# Altium integrated library ON Semi ESD Protection Diodes & Arrays.IntLib: 286 symbols (part 8 of 8)
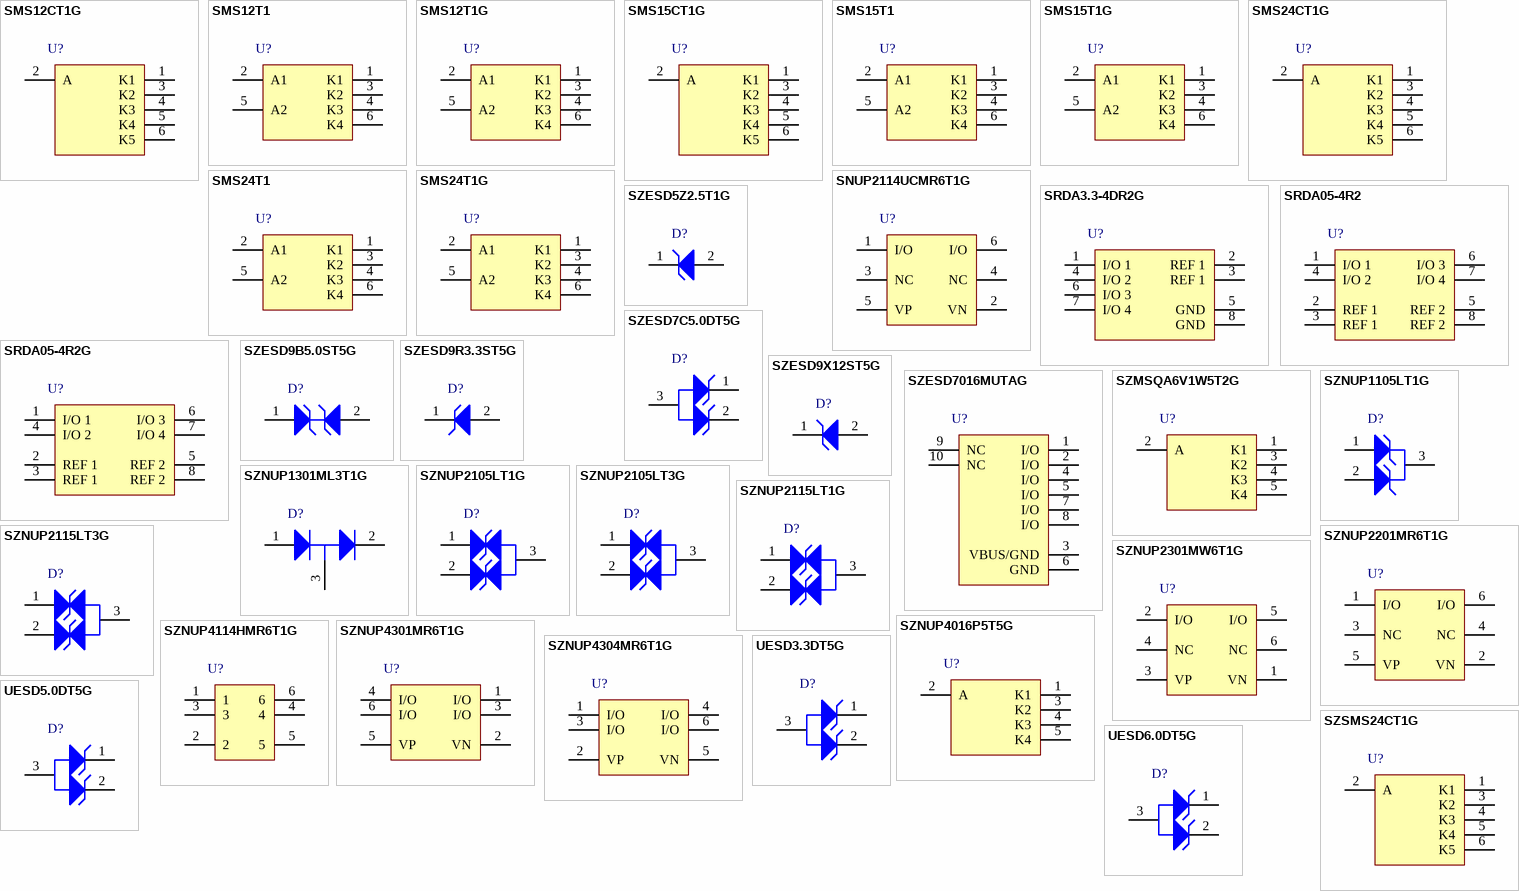
[diagram p14: symbols SMS12CT1G to UESD6.0DT5G]

## SMS15T1
designator U?
Quad Transient Voltage Suppressor, for ESD Protection, 6-Pin SC-74, Tape and Reel; Manufacturer: On Semiconductor; PartNumber: SMS15T1; C Max (pF): 125; Direction: Unidirectional; IR Max (uA): 1; Number of Lines: 4; PPK Max (W): 350; V(BR) Min (V): 16.7; DatasheetVersion: Rev. 7; PackageVersion: Rev. N, 06/2012; PackageReference: SC-74-6-318F-05; PackageDescription: 6-Pin Small Outline Transistor, Body 3 x 1.5 mm, Pitch 0.95 mm; Supplier 1: Digi-Key; Supplier Part Number 1: SMS15T1OS-ND; Supplier 2: Mouser; Supplier Part Number 2: 863-SMS15T1; Packing: Tape and Reel; Mounting Technology: Surface Mount; ComponentLink1Description: Manufacturer URL; ComponentLink1URL: http://www.onsemi.com/; ComponentLink2Description: Datasheet; ComponentLink2URL: http://www.onsemi.cn/pub_link/Collateral/SMS05T1-D.PDF; ComponentLink3Description: Package Specification; ComponentLink3URL: http://www.onsemi.com/pub_link/Collateral/318F-05.PDF
footprint ONSC-SC-74-6-318F-05_V (SOT23, 6-Leads, Body 3x1.5mm, Pitch 0.95mm)
pins: 1 K1, 2 A1, 3 K2, 4 K3, 5 A2, 6 K4

## SMS15T1G
designator U?
Quad Transient Voltage Suppressor, for ESD Protection, 6-Pin SC-74, Pb-Free, Tape and Reel; Manufacturer: On Semiconductor; PartNumber: SMS15T1G; C Max (pF): 125; Direction: Unidirectional; IR Max (uA): 1; Number of Lines: 4; PPK Max (W): 350; V(BR) Min (V): 16.7; DatasheetVersion: Rev. 7; PackageVersion: Rev. N, 06/2012; PackageReference: SC-74-6-318F-05; PackageDescription: 6-Pin Small Outline Transistor, Body 3 x 1.5 mm, Pitch 0.95 mm; Supplier 1: Digi-Key; Supplier Part Number 1: SMS15T1GOSTR-ND; Supplier 2: Digi-Key; Supplier Part Number 2: SMS15T1GOSCT-ND; Supplier 3: Digi-Key; Supplier Part Number 3: SMS15T1GOSDKR-ND; Supplier 4: Farnell; Supplier Part Number 4: 2317490; Supplier 5: Mouser; Supplier Part Number 5: 863-SMS15T1G; Packing: Tape and Reel; RoHS: Pb-Free; Mounting Technology: Surface Mount; ComponentLink1Description: Manufacturer URL; ComponentLink1URL: http://www.onsemi.com/; ComponentLink2Description: Datasheet; ComponentLink2URL: http://www.onsemi.cn/pub_link/Collateral/SMS05T1-D.PDF; ComponentLink3Description: Package Specification; ComponentLink3URL: http://www.onsemi.com/pub_link/Collateral/318F-05.PDF
footprint ONSC-SC-74-6-318F-05_V (SOT23, 6-Leads, Body 3x1.5mm, Pitch 0.95mm)
pins: 1 K1, 2 A1, 3 K2, 4 K3, 5 A2, 6 K4

## SMS24CT1G
designator U?
5-Line Transient Voltage Suppressor Array, 6-Pin TSOP, Pb-Free, Tape and Reel; Manufacturer: On Semiconductor; PartNumber: SMS24CT1G; C Max (pF): 75; Direction: Unidirectional; IR Max (uA): 1; Number of Lines: 5; PPK Max (W): 350; V(BR) Min (V): 26.7; VRWM Max (V): 24; DatasheetVersion: Rev. 7; PackageVersion: Rev. V, 06/2012; PackageReference: TSOP-6-318G-02; PackageDescription: 6-Pin Small Outline Package, Body 3 x 1.5 mm, Pitch 0.95 mm; Supplier 1: Digi-Key; Supplier Part Number 1: SMS24CT1GOSTR-ND; Supplier 2: Digi-Key; Supplier Part Number 2: SMS24CT1GOSCT-ND; Supplier 3: Mouser; Supplier Part Number 3: 863-SMS24CT1G; Packing: Tape and Reel; RoHS: Pb-Free; Mounting Technology: Surface Mount; ComponentLink1Description: Manufacturer URL; ComponentLink1URL: http://www.onsemi.com/; ComponentLink2Description: Datasheet; ComponentLink2URL: http://www.onsemi.cn/pub_link/Collateral/SMS05C-D.PDF; ComponentLink3Description: Package Specification; ComponentLink3URL: http://www.onsemi.com/pub_link/Collateral/318G-02.PDF
footprint ONSC-TSOP-6-318G-02_V (SOP, 6-Leads, Body 3x1.5mm, Pitch 0.95mm)
pins: 1 K1, 2 A, 3 K2, 4 K3, 5 K4, 6 K5

## SMS24T1
designator U?
Quad Transient Voltage Suppressor, for ESD Protection, 6-Pin SC-74, Tape and Reel; Manufacturer: On Semiconductor; PartNumber: SMS24T1; C Max (pF): 75; Direction: Unidirectional; IR Max (uA): 1; Number of Lines: 4; PPK Max (W): 350; V(BR) Min (V): 26.7; DatasheetVersion: Rev. 7; PackageVersion: Rev. N, 06/2012; PackageReference: SC-74-6-318F-05; PackageDescription: 6-Pin Small Outline Transistor, Body 3 x 1.5 mm, Pitch 0.95 mm; Supplier 1: Digi-Key; Supplier Part Number 1: SMS24T1OS-ND; Packing: Tape and Reel; Mounting Technology: Surface Mount; ComponentLink1Description: Manufacturer URL; ComponentLink1URL: http://www.onsemi.com/; ComponentLink2Description: Datasheet; ComponentLink2URL: http://www.onsemi.cn/pub_link/Collateral/SMS05T1-D.PDF; ComponentLink3Description: Package Specification; ComponentLink3URL: http://www.onsemi.com/pub_link/Collateral/318F-05.PDF
footprint ONSC-SC-74-6-318F-05_V (SOT23, 6-Leads, Body 3x1.5mm, Pitch 0.95mm)
pins: 1 K1, 2 A1, 3 K2, 4 K3, 5 A2, 6 K4

## SMS24T1G
designator U?
Quad Transient Voltage Suppressor, for ESD Protection, 6-Pin SC-74, Pb-Free, Tape and Reel; Manufacturer: On Semiconductor; PartNumber: SMS24T1G; C Max (pF): 75; Direction: Unidirectional; IR Max (uA): 1; Number of Lines: 4; PPK Max (W): 350; V(BR) Min (V): 26.7; DatasheetVersion: Rev. 7; PackageVersion: Rev. N, 06/2012; PackageReference: SC-74-6-318F-05; PackageDescription: 6-Pin Small Outline Transistor, Body 3 x 1.5 mm, Pitch 0.95 mm; Supplier 1: Digi-Key; Supplier Part Number 1: SMS24T1GOSTR-ND; Supplier 2: Digi-Key; Supplier Part Number 2: SMS24T1GOSCT-ND; Supplier 3: Digi-Key; Supplier Part Number 3: SMS24T1GOSDKR-ND; Supplier 4: Newark; Supplier Part Number 4: 10N9610; Supplier 5: Mouser; Supplier Part Number 5: 863-SMS24T1G; Packing: Tape and Reel; RoHS: Pb-Free; Mounting Technology: Surface Mount; ComponentLink1Description: Manufacturer URL; ComponentLink1URL: http://www.onsemi.com/; ComponentLink2Description: Datasheet; ComponentLink2URL: http://www.onsemi.cn/pub_link/Collateral/SMS05T1-D.PDF; ComponentLink3Description: Package Specification; ComponentLink3URL: http://www.onsemi.com/pub_link/Collateral/318F-05.PDF
footprint ONSC-SC-74-6-318F-05_V (SOT23, 6-Leads, Body 3x1.5mm, Pitch 0.95mm)
pins: 1 K1, 2 A1, 3 K2, 4 K3, 5 A2, 6 K4

## SNUP2114UCMR6T1G
designator U?
Transient Voltage Suppressor, Low Capacitance ESD Protection for High Speed Data, 6-Pin TSOP, Pb-Free, Tape and Reel; Manufacturer: On Semiconductor; PartNumber: SNUP2114UCMR6T1G; Direction: Unidirectional; IR Max (uA): 1; Number of Lines: 2; V(BR) Min (V): 5.5; VRWM Max (V): 5; DatasheetVersion: Rev. 1; PackageVersion: Rev. V, 06/2012; PackageReference: TSOP-6-318G-02; PackageDescription: 6-Pin Small Outline Package, Body 3 x 1.5 mm, Pitch 0.95 mm; Supplier 1: Digi-Key; Supplier Part Number 1: SNUP2114UCMR6T1G-ND; Supplier 2: Mouser; Supplier Part Number 2: 863-SNUP2114UCMR6T1G; Packing: Tape and Reel; RoHS: Pb-Free; Mounting Technology: Surface Mount; ComponentLink1Description: Manufacturer URL; ComponentLink1URL: http://www.onsemi.com/; ComponentLink2Description: Datasheet; ComponentLink2URL: http://www.onsemi.cn/pub_link/Collateral/NUP2114-D.PDF; ComponentLink3Description: Package Specification; ComponentLink3URL: http://www.onsemi.com/pub_link/Collateral/318G-02.PDF
footprint ONSC-TSOP-6-318G-02_V (SOP, 6-Leads, Body 3x1.5mm, Pitch 0.95mm)
pins: 1 I/O, 2 VN (power), 3 NC, 4 NC, 5 VP (power), 6 I/O

## SRDA3.3-4DR2G
designator U?
Low Capacitance Surface Mount TVS for High-Speed Data Interface, 8-Pin SOIC, Pb-Free, Tape and Reel; Manufacturer: On Semiconductor; PartNumber: SRDA3.3-4DR2G; Direction: Unidirectional; IR Max (uA): 5; Number of Lines: 4; PPK Max (W): 500; VRWM Max (V): 3.3; DatasheetVersion: Rev. 0; PackageVersion: Rev. AK, 02/2011; PackageReference: SOIC-8-751-07; PackageDescription: 8-Pin Small Outline Integrated Circuit, Body 4.9 x 3.9 mm, Pitch 1.27 mm; Supplier 1: Digi-Key; Supplier Part Number 1: SRDA3.3-4DR2GOSTR-ND; Supplier 2: Digi-Key; Supplier Part Number 2: SRDA3.3-4DR2GOSCT-ND; Supplier 3: Digi-Key; Supplier Part Number 3: SRDA3.3-4DR2GOSDKR-ND; Supplier 4: Newark; Supplier Part Number 4: 40T5343; Supplier 5: Mouser; Supplier Part Number 5: 863-SRDA3.3-4DR2G; Packing: Tape and Reel; RoHS: Pb-Free; V(BR) Min (V): 5; Mounting Technology: Surface Mount; ComponentLink1Description: Manufacturer URL; ComponentLink1URL: http://www.onsemi.com/; ComponentLink2Description: Datasheet; ComponentLink2URL: http://www.onsemi.cn/pub_link/Collateral/SRDA3.3-4-D.PDF; ComponentLink3Description: Package Specification; ComponentLink3URL: http://www.onsemi.com/pub_link/Collateral/751-07.PDF
footprint ONSC-SOIC-8-751-07_V (SOIC, 8-Leads, Body 4.9x3.9mm, Pitch 1.27mm)
pins: 1 I/O 1, 2 REF 1, 3 REF 1, 4 I/O 2, 5 GND (power), 6 I/O 3, 7 I/O 4, 8 GND (power)

## SRDA05-4R2
designator U?
Low Capacitance Surface Mount TVS for High-Speed Data Interface, 8-Pin SOIC, Tape and Reel; Manufacturer: On Semiconductor; PartNumber: SRDA05-4R2; Direction: Bidirectional; IR Max (uA): 10; Number of Lines: 4; PPK Max (W): 500; V(BR) Min (V): 6; DatasheetVersion: Rev. 5; PackageVersion: Rev. AK, 02/2011; PackageReference: SOIC-8-751-07; PackageDescription: 8-Pin Small Outline Integrated Circuit, Body 4.9 x 3.9 mm, Pitch 1.27 mm; Supplier 1: Digi-Key; Supplier Part Number 1: SRDA05-4R2OS-ND; Packing: Tape and Reel; Mounting Technology: Surface Mount; ComponentLink1Description: Manufacturer URL; ComponentLink1URL: http://www.onsemi.com/; ComponentLink2Description: Datasheet; ComponentLink2URL: http://www.onsemi.cn/pub_link/Collateral/SRDA05-4R2-D.PDF; ComponentLink3Description: Package Specification; ComponentLink3URL: http://www.onsemi.com/pub_link/Collateral/751-07.PDF
footprint ONSC-SOIC-8-751-07_V (SOIC, 8-Leads, Body 4.9x3.9mm, Pitch 1.27mm)
pins: 1 I/O 1, 2 REF 1, 3 REF 1, 4 I/O 2, 5 REF 2, 6 I/O 3, 7 I/O 4, 8 REF 2

## SRDA05-4R2G
designator U?
Low Capacitance Surface Mount TVS for High-Speed Data Interface, 8-Pin SOIC, Pb-Free, Tape and Reel; Manufacturer: On Semiconductor; PartNumber: SRDA05-4R2G; Direction: Bidirectional; IR Max (uA): 10; Number of Lines: 4; PPK Max (W): 500; V(BR) Min (V): 6; DatasheetVersion: Rev. 5; PackageVersion: Rev. AK, 02/2011; PackageReference: SOIC-8-751-07; PackageDescription: 8-Pin Small Outline Integrated Circuit, Body 4.9 x 3.9 mm, Pitch 1.27 mm; Supplier 1: Digi-Key; Supplier Part Number 1: SRDA05-4R2GOSTR-ND; Supplier 2: Digi-Key; Supplier Part Number 2: SRDA05-4R2GOSCT-ND; Supplier 3: Digi-Key; Supplier Part Number 3: SRDA05-4R2GOSDKR-ND; Supplier 4: Farnell; Supplier Part Number 4: 2369561; Supplier 5: Farnell; Supplier Part Number 5: 1891197; Supplier 6: Newark; Supplier Part Number 6: 50M2162; Supplier 7: Newark; Supplier Part Number 7: 09R9722; Supplier 8: Mouser; Supplier Part Number 8: 863-SRDA05-4R2G; Packing: Tape and Reel; RoHS: Pb-Free; Mounting Technology: Surface Mount; ComponentLink1Description: Manufacturer URL; ComponentLink1URL: http://www.onsemi.com/; ComponentLink2Description: Datasheet; ComponentLink2URL: http://www.onsemi.cn/pub_link/Collateral/SRDA05-4R2-D.PDF; ComponentLink3Description: Package Specification; ComponentLink3URL: http://www.onsemi.com/pub_link/Collateral/751-07.PDF
footprint ONSC-SOIC-8-751-07_V (SOIC, 8-Leads, Body 4.9x3.9mm, Pitch 1.27mm)
pins: 1 I/O 1, 2 REF 1, 3 REF 1, 4 I/O 2, 5 REF 2, 6 I/O 3, 7 I/O 4, 8 REF 2

## SZESD5Z2.5T1G
designator D?
Transient Voltage Suppressor, Micro-Packaged Diode for ESD Protection, 2-Pin SOD-523, Pb-Free, Tape and Reel; Manufacturer: On Semiconductor; PartNumber: SZESD5Z2.5T1G; Direction: Unidirectional; IR Max (uA): 6; Number of Lines: 1; PPK Max (W): 120; V(BR) Min (V): 4; VRWM Max (V): 2.5; DatasheetVersion: Rev. 10; PackageVersion: Rev. E, 09/2010; PackageReference: SOD-523-2-502-01; PackageDescription: 2-Pin SOD, Body 1.2 x 0.8 mm; Packing: Tape and Reel; RoHS: Pb-Free; Mounting Technology: Surface Mount; ComponentLink1Description: Manufacturer URL; ComponentLink1URL: http://www.onsemi.com/; ComponentLink2Description: Datasheet; ComponentLink2URL: http://www.onsemi.cn/pub_link/Collateral/ESD5Z2.5T1-D.PDF; ComponentLink3Description: Package Specification; ComponentLink3URL: http://www.onsemi.com/pub_link/Collateral/502-01.PDF
footprint ONSC-SOD-523-2-502-01_V (SOD, 2-Leads, Body 1.2x0.8mm)
pins: 1 K, 2 A

## SZESD7C5.0DT5G
designator D?
Transient Voltage Suppressor, Micro-Packaged Diode for ESD Protection, 3-Pin SOT-723, Pb-Free, Tape and Reel; Manufacturer: On Semiconductor; PartNumber: SZESD7C5.0DT5G; C Max (pF): 6.2; Direction: Unidirectional; IR Max (uA): 0.5; Number of Lines: 2; V(BR) Min (V): 11; VRWM Max (V): 5; DatasheetVersion: Rev. 3; PackageVersion: Rev. D, 08/2009; PackageReference: SOT-723-3-631AA-01; PackageDescription: 3-Pin Small Outline Transistor, Body 1.2 x 0.8 mm, Pitch 0.4 mm; Packing: Tape and Reel; RoHS: Pb-Free; Mounting Technology: Surface Mount; ComponentLink1Description: Manufacturer URL; ComponentLink1URL: http://www.onsemi.com/; ComponentLink2Description: Datasheet; ComponentLink2URL: http://www.onsemi.cn/pub_link/Collateral/ESD7C3.3D-D.PDF; ComponentLink3Description: Package Specification; ComponentLink3URL: http://www.onsemi.com/pub_link/Collateral/631AA.PDF
footprint ONSC-SOT-723-3-631AA-01_V (SOT223, 3-Leads, Body 1.2x0.8mm, Pitch 0.4mm)
pins: 1 K1, 2 K2, 3 A

## SZESD9B5.0ST5G
designator D?
Transient Voltage Suppressor, Micro-Packaged Diode for ESD Protection, 2-Pin SOD-923, Pb-Free, Tape and Reel; Manufacturer: On Semiconductor; PartNumber: SZESD9B5.0ST5G; Direction: Bidirectional; IR Max (uA): 1; V(BR) Min (V): 5.8; VRWM Max (V): 5; DatasheetVersion: Rev. 2; PackageVersion: Rev. C, 03/2011; PackageReference: SOD-923-2-514AB-01; PackageDescription: 2-Pin SOD, Body 0.8 x 0.6 mm; Number of Lines: 1; Packing: Tape and Reel; RoHS: Pb-Free; Mounting Technology: Surface Mount; ComponentLink1Description: Manufacturer URL; ComponentLink1URL: http://www.onsemi.com/; ComponentLink2Description: Datasheet; ComponentLink2URL: http://www.onsemi.cn/pub_link/Collateral/ESD9B-D.PDF; ComponentLink3Description: Package Specification; ComponentLink3URL: http://www.onsemi.com/pub_link/Collateral/514AB.PDF
footprint ONSC-SOD-923-2-514AB-01_V (SOD, 2-Leads, Body 0.8x0.6mm)
pins: 1 A1, 2 A2

## SZESD9R3.3ST5G
designator D?
Transient Voltage Suppressor, ESD Protection Diode with Ultra-Low Leakage, 2-Pin SOD-923, Pb-Free, Tape and Reel; Manufacturer: On Semiconductor; PartNumber: SZESD9R3.3ST5G; C Max (pF): 0.9; Direction: Unidirectional; IR Max (uA): 0.001; Number of Lines: 1; V(BR) Min (V): 4.8; VRWM Max (V): 3.3; DatasheetVersion: Rev. 1; PackageVersion: Rev. C, 03/2011; PackageReference: SOD-923-2-514AB-01; PackageDescription: 2-Pin SOD, Body 0.8 x 0.6 mm; Supplier 1: Newark; Supplier Part Number 1: 97W6499; Supplier 2: Mouser; Supplier Part Number 2: 863-SZESD9R3.3ST5G; Packing: Tape and Reel; RoHS: Pb-Free; Mounting Technology: Surface Mount; ComponentLink1Description: Manufacturer URL; ComponentLink1URL: http://www.onsemi.com/; ComponentLink2Description: Datasheet; ComponentLink2URL: http://www.onsemi.com/pub_link/Collateral/ESD9R3.3S-D.PDF; ComponentLink3Description: Package Specification; ComponentLink3URL: http://www.onsemi.com/pub_link/Collateral/514AB.PDF
footprint ONSC-SOD-923-2-514AB-01_V (SOD, 2-Leads, Body 0.8x0.6mm)
pins: 1 K, 2 A

## SZESD9X12ST5G
designator D?
Transient Voltage Suppressor, Micro-Packaged Diode for ESD Protection, 2-Pin SOD-923, Pb-Free, Tape and Reel; Manufacturer: On Semiconductor; PartNumber: SZESD9X12ST5G; C Max (pF): 30; Direction: Unidirectional; IR Max (uA): 1; PPK Max (W): 140; V(BR) Min (V): 13.5; VRWM Max (V): 12; DatasheetVersion: Rev. 7; PackageVersion: Rev. E, 03/2011; PackageReference: SOD-923-2-514AA-01; PackageDescription: 2-Pin SOD, Body 0.8 x 0.6 mm; Supplier 1: Newark; Supplier Part Number 1: 72W2434; Supplier 2: Mouser; Supplier Part Number 2: 863-SZESD9X12ST5G; Number of Lines: 1; Packing: Tape and Reel; RoHS: Pb-Free; Mounting Technology: Surface Mount; ComponentLink1Description: Manufacturer URL; ComponentLink1URL: http://www.onsemi.com/; ComponentLink2Description: Datasheet; ComponentLink2URL: http://www.onsemi.com/pub_link/Collateral/ESD9X3.3ST5G-D.PDF; ComponentLink3Description: Package Specification; ComponentLink3URL: http://www.onsemi.com/pub_link/Collateral/514AA.PDF
footprint ONSC-SOD-923-2-514AA-01_V (SOD, 2-Leads, Body 0.8x0.6mm)
pins: 1 K, 2 A

## SZESD7016MUTAG
designator U?
Low Capacitance ESD Protection USB3.0, 8-Pin UDFN, Pb-Free, Tape and Reel; Manufacturer: On Semiconductor; PartNumber: SZESD7016MUTAG; Direction: Bidirectional; IR Max (uA): 1; Number of Lines: 6; V(BR) Min (V): 5.5; VRWM Max (V): 5; DatasheetVersion: Rev. 3; PackageVersion: Rev. O, 09/2011; PackageReference: UDFN-8-517CB; PackageDescription: 8-Pin Small Outline No-Lead, Body 3.3 x 1 mm, Pitch 0.4 mm; Supplier 1: Mouser; Supplier Part Number 1: 863-SZESD7016MUTAG; Packing: Tape and Reel; RoHS: Pb-Free; Mounting Technology: Surface Mount; ComponentLink1Description: Manufacturer URL; ComponentLink1URL: http://www.onsemi.com/; ComponentLink2Description: Datasheet; ComponentLink2URL: http://www.onsemi.com/pub_link/Collateral/ESD7016-D.PDF; ComponentLink3Description: Package Specification; ComponentLink3URL: http://www.onsemi.com/pub_link/Collateral/517CB.PDF
footprint ONSC-UDFN-8-517CB_V (SON, 8-Leads, Body 3.3x1mm, Pitch 0.4mm)
pins: 1 I/O, 2 I/O, 3 VBUS/GND (power), 4 I/O, 5 I/O, 6 GND (power), 7 I/O, 8 I/O, 9 NC, 10 NC

## SZMSQA6V1W5T2G
designator U?
Quad Array ESD Protection Diodes with Low Clamping Voltage, 5-Pin SC70, Pb-Free, Tape and Reel; Manufacturer: On Semiconductor; PartNumber: SZMSQA6V1W5T2G; C Max (pF): 90; Direction: Unidirectional; IR Max (uA): 1; Number of Lines: 4; PPK Max (W): 150; V(BR) Min (V): 6.1; DatasheetVersion: Rev. 7; PackageVersion: Rev. L, 01/2013; PackageReference: SC70-5-419A-02; PackageDescription: 5-Pin Small Outline Transistor, Body 2 x 1.25 mm, Pitch 0.65 mm; Supplier 1: Digi-Key; Supplier Part Number 1: SZMSQA6V1W5T2G-ND; Supplier 2: Newark; Supplier Part Number 2: 76T7848; Supplier 3: Mouser; Supplier Part Number 3: 863-SZMSQA6V1W5T2G; Packing: Tape and Reel; RoHS: Pb-Free; Mounting Technology: Surface Mount; ComponentLink1Description: Manufacturer URL; ComponentLink1URL: http://www.onsemi.com/; ComponentLink2Description: Datasheet; ComponentLink2URL: http://www.onsemi.cn/pub_link/Collateral/MSQA6V1W5T2-D.PDF; ComponentLink3Description: Package Specification; ComponentLink3URL: http://www.onsemi.cn/pub_link/Collateral/419A-02.PDF
footprint ONSC-SC70-5-419A-02_V (SOT23, 5-Leads, Body 2x1.25mm, Pitch 0.65mm)
pins: 1 K1, 2 A, 3 K2, 4 K3, 5 K4

## SZNUP1105LT1G
designator D?
Single Line CAN / LIN Bus Protector, 3-Pin SOT-23, Pb-Free, Tape and Reel; Manufacturer: On Semiconductor; PartNumber: SZNUP1105LT1G; Direction: Bidirectional; IR Max (uA): 0.1; Number of Lines: 1; PPK Max (W): 350; V(BR) Min (V): 25.7; DatasheetVersion: Rev. 4; PackageVersion: Rev. AP, 11/2009; PackageReference: SOT-23-3-318-08; PackageDescription: 3-Pin Small Outline Transistor, Body 2.92 x 1.3 mm, Pitch 0.95 mm; Supplier 1: Digi-Key; Supplier Part Number 1: SZNUP1105LT1G-ND; Supplier 2: Newark; Supplier Part Number 2: 76T7854; Supplier 3: Mouser; Supplier Part Number 3: 863-SZNUP1105LT1G; Packing: Tape and Reel; RoHS: Pb-Free; Mounting Technology: Surface Mount; ComponentLink1Description: Manufacturer URL; ComponentLink1URL: http://www.onsemi.com/; ComponentLink2Description: Datasheet; ComponentLink2URL: http://www.onsemi.cn/pub_link/Collateral/NUP1105L-D.PDF; ComponentLink3Description: Package Specification; ComponentLink3URL: http://www.onsemi.cn/pub_link/Collateral/318-08.PDF
footprint ONSC-SOT-23-3-318-08_V (SOT23, 3-Leads, Body 2.92x1.3mm, Pitch 0.95mm)
pins: 1 A1, 2 A2, 3 K

## SZNUP1301ML3T1G
designator D?
Low Capacitance Diode Array for ESD Protection in a Single Data Line, 3-Pin SOT-23, Pb-Free, Tape and Reel; Manufacturer: On Semiconductor; PartNumber: SZNUP1301ML3T1G; C Max (pF): 0.9; Direction: Bidirectional; Number of Lines: 1; V(BR) Min (V): 70; DatasheetVersion: Rev. 6; PackageVersion: Rev. AP, 11/2009; PackageReference: SOT-23-3-318-08; PackageDescription: 3-Pin Small Outline Transistor, Body 2.92 x 1.3 mm, Pitch 0.95 mm; Supplier 1: Digi-Key; Supplier Part Number 1: SZNUP1301ML3T1G-ND; Supplier 2: Newark; Supplier Part Number 2: 76T7855; Supplier 3: Mouser; Supplier Part Number 3: 863-SZNUP1301ML3T1G; Packing: Tape and Reel; RoHS: Pb-Free; VRWM Max (V): 70; Mounting Technology: Surface Mount; ComponentLink1Description: Manufacturer URL; ComponentLink1URL: http://www.onsemi.com/; ComponentLink2Description: Datasheet; ComponentLink2URL: http://www.onsemi.cn/pub_link/Collateral/NUP1301ML3T1-D.PDF; ComponentLink3Description: Package Specification; ComponentLink3URL: http://www.onsemi.cn/pub_link/Collateral/318-08.PDF
footprint ONSC-SOT-23-3-318-08_V (SOT23, 3-Leads, Body 2.92x1.3mm, Pitch 0.95mm)
pins: 1 A, 2 K, 3 K/A

## SZNUP2105LT1G
designator D?
Dual Line CAN Bus Protector, 3-Pin SOT-23, Pb-Free, Tape and Reel; Manufacturer: On Semiconductor; PartNumber: SZNUP2105LT1G; C Max (pF): 30; Direction: Bidirectional; IR Max (uA): 0.1; Number of Lines: 2; PPK Max (W): 350; V(BR) Min (V): 26.2; DatasheetVersion: Rev. 5; PackageVersion: Rev. AP, 11/2009; PackageReference: SOT-23-3-318-08; PackageDescription: 3-Pin Small Outline Transistor, Body 2.92 x 1.3 mm, Pitch 0.95 mm; Supplier 1: Digi-Key; Supplier Part Number 1: SZNUP2105LT1GOSTR-ND; Supplier 2: Digi-Key; Supplier Part Number 2: SZNUP2105LT1GOSCT-ND; Supplier 3: Digi-Key; Supplier Part Number 3: SZNUP2105LT1GOSDKR-ND; Supplier 4: Newark; Supplier Part Number 4: 76T7856; Supplier 5: Mouser; Supplier Part Number 5: 863-SZNUP2105LT1G; Packing: Tape and Reel; RoHS: Pb-Free; Mounting Technology: Surface Mount; ComponentLink1Description: Manufacturer URL; ComponentLink1URL: http://www.onsemi.com/; ComponentLink2Description: Datasheet; ComponentLink2URL: http://www.onsemi.cn/pub_link/Collateral/NUP2105L-D.PDF; ComponentLink3Description: Package Specification; ComponentLink3URL: http://www.onsemi.cn/pub_link/Collateral/318-08.PDF
footprint ONSC-SOT-23-3-318-08_V (SOT23, 3-Leads, Body 2.92x1.3mm, Pitch 0.95mm)
pins: 1 K, 2 K, 3 K

## SZNUP2105LT3G
designator D?
Dual Line CAN Bus Protector, 3-Pin SOT-23, Pb-Free, Tape and Reel; Manufacturer: On Semiconductor; PartNumber: SZNUP2105LT3G; C Max (pF): 30; Direction: Bidirectional; IR Max (uA): 0.1; Number of Lines: 2; PPK Max (W): 350; V(BR) Min (V): 26.2; DatasheetVersion: Rev. 5; PackageVersion: Rev. AP, 11/2009; PackageReference: SOT-23-3-318-08; PackageDescription: 3-Pin Small Outline Transistor, Body 2.92 x 1.3 mm, Pitch 0.95 mm; Supplier 1: Digi-Key; Supplier Part Number 1: SZNUP2105LT3G-ND; Supplier 2: Mouser; Supplier Part Number 2: 863-SZNUP2105LT3G; Packing: Tape and Reel; RoHS: Pb-Free; Mounting Technology: Surface Mount; ComponentLink1Description: Manufacturer URL; ComponentLink1URL: http://www.onsemi.com/; ComponentLink2Description: Datasheet; ComponentLink2URL: http://www.onsemi.cn/pub_link/Collateral/NUP2105L-D.PDF; ComponentLink3Description: Package Specification; ComponentLink3URL: http://www.onsemi.cn/pub_link/Collateral/318-08.PDF
footprint ONSC-SOT-23-3-318-08_V (SOT23, 3-Leads, Body 2.92x1.3mm, Pitch 0.95mm)
pins: 1 K, 2 K, 3 K

## SZNUP2115LT1G
designator D?
Dual Line FlexRay Bus Protector, 3-Pin SOT-23, Pb-Free, Tape and Reel; Manufacturer: On Semiconductor; PartNumber: SZNUP2115LT1G; C Max (pF): 10; Direction: Bidirectional; IR Max (uA): 0.1; Number of Lines: 2; PPK Max (W): 200; V(BR) Min (V): 26.2; DatasheetVersion: Rev. 0; PackageVersion: Rev. AP, 11/2009; PackageReference: SOT-23-3-318-08; PackageDescription: 3-Pin Small Outline Transistor, Body 2.92 x 1.3 mm, Pitch 0.95 mm; Supplier 1: Newark; Supplier Part Number 1: 97W6504; Supplier 2: Mouser; Supplier Part Number 2: 863-SZNUP2115LT1G; Packing: Tape and Reel; RoHS: Pb-Free; Mounting Technology: Surface Mount; ComponentLink1Description: Manufacturer URL; ComponentLink1URL: http://www.onsemi.com/; ComponentLink2Description: Datasheet; ComponentLink2URL: http://www.onsemi.com/pub_link/Collateral/NUP2115L-D.PDF; ComponentLink3Description: Package Specification; ComponentLink3URL: http://www.onsemi.cn/pub_link/Collateral/318-08.PDF
footprint ONSC-SOT-23-3-318-08_V (SOT23, 3-Leads, Body 2.92x1.3mm, Pitch 0.95mm)
pins: 1 K, 2 K, 3 K

## SZNUP2115LT3G
designator D?
Dual Line FlexRay Bus Protector, 3-Pin SOT-23, Pb-Free, Tape and Reel; Manufacturer: On Semiconductor; PartNumber: SZNUP2115LT3G; C Max (pF): 10; Direction: Bidirectional; IR Max (uA): 0.1; Number of Lines: 2; PPK Max (W): 200; V(BR) Min (V): 26.2; DatasheetVersion: Rev. 0; PackageVersion: Rev. AP, 11/2009; PackageReference: SOT-23-3-318-08; PackageDescription: 3-Pin Small Outline Transistor, Body 2.92 x 1.3 mm, Pitch 0.95 mm; Supplier 1: Newark; Supplier Part Number 1: 97W6505; Supplier 2: Mouser; Supplier Part Number 2: 863-SZNUP2115LT3G; Packing: Tape and Reel; RoHS: Pb-Free; Mounting Technology: Surface Mount; ComponentLink1Description: Manufacturer URL; ComponentLink1URL: http://www.onsemi.com/; ComponentLink2Description: Datasheet; ComponentLink2URL: http://www.onsemi.com/pub_link/Collateral/NUP2115L-D.PDF; ComponentLink3Description: Package Specification; ComponentLink3URL: http://www.onsemi.cn/pub_link/Collateral/318-08.PDF
footprint ONSC-SOT-23-3-318-08_V (SOT23, 3-Leads, Body 2.92x1.3mm, Pitch 0.95mm)
pins: 1 K, 2 K, 3 K

## SZNUP2201MR6T1G
designator U?
Transient Voltage Suppressor, ESD Protection Diodes with Low Clamping Voltage, 6-Pin TSOP, Pb-Free, Tape and Reel; Manufacturer: On Semiconductor; PartNumber: SZNUP2201MR6T1G; Direction: Bidirectional; IR Max (uA): 5; Number of Lines: 2; PPK Max (W): 500; V(BR) Min (V): 6; DatasheetVersion: Rev. 4; PackageVersion: Rev. V, 06/2012; PackageReference: TSOP-6-318G-02; PackageDescription: 6-Pin Small Outline Package, Body 3 x 1.5 mm, Pitch 0.95 mm; Supplier 1: Mouser; Supplier Part Number 1: N/A; Packing: Tape and Reel; RoHS: Pb-Free; VRWM Max (V): 5; Mounting Technology: Surface Mount; ComponentLink1Description: Manufacturer URL; ComponentLink1URL: http://www.onsemi.com/; ComponentLink2Description: Datasheet; ComponentLink2URL: http://www.onsemi.cn/pub_link/Collateral/NUP2201MR6-D.PDF; ComponentLink3Description: Package Specification; ComponentLink3URL: http://www.onsemi.com/pub_link/Collateral/318G-02.PDF
footprint ONSC-TSOP-6-318G-02_V (SOP, 6-Leads, Body 3x1.5mm, Pitch 0.95mm)
pins: 1 I/O, 2 VN (power), 3 NC, 4 NC, 5 VP (power), 6 I/O

## SZNUP2301MW6T1G
designator U?
Low Capacitance Diode Array for ESD Protection in Two Data Lines, 6-Pin SC70, Pb-Free, Tape and Reel; Manufacturer: On Semiconductor; PartNumber: SZNUP2301MW6T1G; Direction: Bidirectional; Number of Lines: 2; V(BR) Min (V): 70; DatasheetVersion: Rev. 5; PackageVersion: Rev. W; PackageReference: SC70-6-419B-02_W; PackageDescription: 6-Pin Small Outline Transistor, Body 2 x 1.25 mm, Pitch 0.65 mm; Supplier 1: Digi-Key; Supplier Part Number 1: SZNUP2301MW6T1G-ND; Supplier 2: Mouser; Supplier Part Number 2: 863-SZNUP2301MW6T1G; Packing: Tape and Reel; RoHS: Pb-Free; Mounting Technology: Surface Mount; ComponentLink1Description: Manufacturer URL; ComponentLink1URL: http://www.onsemi.com/; ComponentLink2Description: Datasheet; ComponentLink2URL: http://www.onsemi.cn/pub_link/Collateral/NUP2301MW6T1-D.PDF; ComponentLink3Description: Package Specification; ComponentLink3URL: http://www.onsemi.com/pub_link/Collateral/SMF05C-D.PDF
footprint ONSC-SC70-6-419B-02_W_V (SOT23, 6-Leads, Body 2x1.25mm, Pitch 0.65mm)
pins: 1 VN (power), 2 I/O, 3 VP (power), 4 NC, 5 I/O, 6 NC

## SZNUP4016P5T5G
designator U?
Ultra-Low Capacitance Diode-TVS Array for High Speed Data Line Protection, 5-Pin SOT-953, Pb-Free, Tape and Reel; Manufacturer: On Semiconductor; PartNumber: SZNUP4016P5T5G; Direction: Unidirectional; IR Max (uA): 1; Number of Lines: 4; V(BR) Min (V): 5.5; VRWM Max (V): 5; DatasheetVersion: Rev. 4; PackageVersion: Rev. E, 08/2011; PackageReference: SOT-953-5-527AE; PackageDescription: 5-Pin Small Outline Transistor, Body 1 x 0.8 mm, Pitch 0.35 mm; Supplier 1: Digi-Key; Supplier Part Number 1: SZNUP4016P5T5G-ND; Supplier 2: Mouser; Supplier Part Number 2: 863-SZNUP4016P5T5G; Packing: Tape and Reel; RoHS: Pb-Free; Mounting Technology: Surface Mount; ComponentLink1Description: Manufacturer URL; ComponentLink1URL: http://www.onsemi.com/; ComponentLink2Description: Datasheet; ComponentLink2URL: http://www.onsemi.cn/pub_link/Collateral/NUP4016P5-D.PDF; ComponentLink3Description: Package Specification; ComponentLink3URL: http://www.onsemi.com/pub_link/Collateral/527AE.PDF
footprint ONSC-SOT-953-5-527AE_V (SOT23, 5-Leads, Body 1x0.8mm, Pitch 0.35mm)
pins: 1 K1, 2 A, 3 K2, 4 K3, 5 K4

## SZNUP4114HMR6T1G
designator U?
Transient Voltage Suppressor, ESD Protection Diodes with Low Clamping Voltage, 6-Pin TSOP, Pb-Free, Tape and Reel; Manufacturer: On Semiconductor; PartNumber: SZNUP4114HMR6T1G; Direction: Unidirectional; IR Max (uA): 1; Number of Lines: 4; V(BR) Min (V): 5.5; DatasheetVersion: Rev. 2; PackageVersion: Rev. V, 06/2012; PackageReference: TSOP-6-318G-02; PackageDescription: 6-Pin Small Outline Package, Body 3 x 1.5 mm, Pitch 0.95 mm; Supplier 1: Digi-Key; Supplier Part Number 1: SZNUP4114HMR6T1G-ND; Supplier 2: Newark; Supplier Part Number 2: 76T7860; Supplier 3: Mouser; Supplier Part Number 3: 863-SZNUP4114HMR6T1G; Packing: Tape and Reel; RoHS: Pb-Free; VRWM Max (V): 5.5; Mounting Technology: Surface Mount; ComponentLink1Description: Manufacturer URL; ComponentLink1URL: http://www.onsemi.com/; ComponentLink2Description: Datasheet; ComponentLink2URL: http://www.onsemi.com/pub_link/Collateral/NUP4114-D.PDF; ComponentLink3Description: Package Specification; ComponentLink3URL: http://www.onsemi.com/pub_link/Collateral/318G-02.PDF
footprint ONSC-TSOP-6-318G-02_V (SOP, 6-Leads, Body 3x1.5mm, Pitch 0.95mm)
pins: 1, 2, 3, 4, 5, 6

## SZNUP4301MR6T1G
designator U?
Low Capacitance Diode Array for ESD Protection in Four Data Lines, 6-Pin SC-74, Pb-Free, Tape and Reel; Manufacturer: On Semiconductor; PartNumber: SZNUP4301MR6T1G; Direction: Bidirectional; Number of Lines: 4; V(BR) Min (V): 70; DatasheetVersion: Rev. 6; PackageVersion: Rev. N, 06/2012; PackageReference: SC-74-6-318F-05; PackageDescription: 6-Pin Small Outline Transistor, Body 3 x 1.5 mm, Pitch 0.95 mm; Supplier 1: Digi-Key; Supplier Part Number 1: SZNUP4301MR6T1G-ND; Supplier 2: Mouser; Supplier Part Number 2: 863-SZNUP4301MR6T1G; Packing: Tape and Reel; RoHS: Pb-Free; Mounting Technology: Surface Mount; ComponentLink1Description: Manufacturer URL; ComponentLink1URL: http://www.onsemi.com/; ComponentLink2Description: Datasheet; ComponentLink2URL: http://www.onsemi.com/pub/Collateral/NUP4301MR6T1-D.PDF; ComponentLink3Description: Package Specification; ComponentLink3URL: http://www.onsemi.com/pub_link/Collateral/318F-05.PDF
footprint ONSC-SC-74-6-318F-05_V (SOT23, 6-Leads, Body 3x1.5mm, Pitch 0.95mm)
pins: 1 I/O, 2 VN (power), 3 I/O, 4 I/O, 5 VP (power), 6 I/O

## SZNUP4304MR6T1G
designator U?
Low Capacitance Diode Array for ESD Protection in Four Data Lines, 6-Pin SC-74, Pb-Free, Tape and Reel; Manufacturer: On Semiconductor; PartNumber: SZNUP4304MR6T1G; Direction: Bidirectional; Number of Lines: 4; V(BR) Min (V): 70; DatasheetVersion: Rev. 4; PackageVersion: Rev. N, 06/2012; PackageReference: SC-74-6-318F-05; PackageDescription: 6-Pin Small Outline Transistor, Body 3 x 1.5 mm, Pitch 0.95 mm; Supplier 1: Digi-Key; Supplier Part Number 1: SZNUP4304MR6T1G-ND; Supplier 2: Mouser; Supplier Part Number 2: 863-SZNUP4304MR6T1G; Packing: Tape and Reel; RoHS: Pb-Free; Mounting Technology: Surface Mount; ComponentLink1Description: Manufacturer URL; ComponentLink1URL: http://www.onsemi.com/; ComponentLink2Description: Datasheet; ComponentLink2URL: http://www.onsemi.com/pub_link/Collateral/NUP4304M6-D.PDF; ComponentLink3Description: Package Specification; ComponentLink3URL: http://www.onsemi.com/pub_link/Collateral/318F-05.PDF
footprint ONSC-SC-74-6-318F-05_V (SOT23, 6-Leads, Body 3x1.5mm, Pitch 0.95mm)
pins: 1 I/O, 2 VP (power), 3 I/O, 4 I/O, 5 VN (power), 6 I/O

## SZSMS24CT1G
designator U?
5-Line Transient Voltage Suppressor Array, 6-Pin TSOP, Pb-Free, Tape and Reel; Manufacturer: On Semiconductor; PartNumber: SZSMS24CT1G; C Max (pF): 75; Direction: Unidirectional; IR Max (uA): 1; Number of Lines: 5; PPK Max (W): 350; V(BR) Min (V): 26.7; VRWM Max (V): 24; DatasheetVersion: Rev. 7; PackageVersion: Rev. V, 06/2012; PackageReference: TSOP-6-318G-02; PackageDescription: 6-Pin Small Outline Package, Body 3 x 1.5 mm, Pitch 0.95 mm; Packing: Tape and Reel; RoHS: Pb-Free; Mounting Technology: Surface Mount; ComponentLink1Description: Manufacturer URL; ComponentLink1URL: http://www.onsemi.com/; ComponentLink2Description: Datasheet; ComponentLink2URL: http://www.onsemi.cn/pub_link/Collateral/SMS05C-D.PDF; ComponentLink3Description: Package Specification; ComponentLink3URL: http://www.onsemi.com/pub_link/Collateral/318G-02.PDF
footprint ONSC-TSOP-6-318G-02_V (SOP, 6-Leads, Body 3x1.5mm, Pitch 0.95mm)
pins: 1 K1, 2 A, 3 K2, 4 K3, 5 K4, 6 K5

## UESD3.3DT5G
designator D?
ESD Protection Diode, 3-Pin SOT-723, Pb-Free, Tape and Reel; Manufacturer: On Semiconductor; PartNumber: UESD3.3DT5G; Direction: Unidirectional; IR Max (uA): 1; Number of Lines: 2; V(BR) Min (V): 5; VRWM Max (V): 3.3; DatasheetVersion: Rev. 4; PackageVersion: Rev. D, 08/2009; PackageReference: SOT-723-3-631AA-01; PackageDescription: 3-Pin Small Outline Transistor, Body 1.2 x 0.8 mm, Pitch 0.4 mm; Supplier 1: Digi-Key; Supplier Part Number 1: UESD3.3DT5GOSTR-ND; Supplier 2: Digi-Key; Supplier Part Number 2: UESD3.3DT5GOSCT-ND; Supplier 3: Digi-Key; Supplier Part Number 3: UESD3.3DT5GOSDKR-ND; Supplier 4: Farnell; Supplier Part Number 4: 1890734; Supplier 5: Newark; Supplier Part Number 5: 09R9724; Supplier 6: Newark; Supplier Part Number 6: 42K2727; Supplier 7: Mouser; Supplier Part Number 7: 863-UESD3.3DT5G; Packing: Tape and Reel; RoHS: Pb-Free; Mounting Technology: Surface Mount; ComponentLink1Description: Manufacturer URL; ComponentLink1URL: http://www.onsemi.com/; ComponentLink2Description: Datasheet; ComponentLink2URL: http://www.onsemi.cn/pub_link/Collateral/UESD3.3DT5G-D.PDF; ComponentLink3Description: Package Specification; ComponentLink3URL: http://www.onsemi.com/pub_link/Collateral/631AA.PDF
footprint ONSC-SOT-723-3-631AA-01_V (SOT223, 3-Leads, Body 1.2x0.8mm, Pitch 0.4mm)
pins: 1 K1, 2 K2, 3 A

## UESD5.0DT5G
designator D?
ESD Protection Diode, 3-Pin SOT-723, Pb-Free, Tape and Reel; Manufacturer: On Semiconductor; PartNumber: UESD5.0DT5G; Direction: Unidirectional; IR Max (uA): 0.1; Number of Lines: 2; V(BR) Min (V): 6.2; VRWM Max (V): 5; DatasheetVersion: Rev. 4; PackageVersion: Rev. D, 08/2009; PackageReference: SOT-723-3-631AA-01; PackageDescription: 3-Pin Small Outline Transistor, Body 1.2 x 0.8 mm, Pitch 0.4 mm; Supplier 1: Digi-Key; Supplier Part Number 1: UESD5.0DT5GOSTR-ND; Supplier 2: Digi-Key; Supplier Part Number 2: UESD5.0DT5GOSCT-ND; Supplier 3: Digi-Key; Supplier Part Number 3: UESD5.0DT5GOSDKR-ND; Supplier 4: Farnell; Supplier Part Number 4: 1886878; Supplier 5: Newark; Supplier Part Number 5: 42K2728; Supplier 6: Mouser; Supplier Part Number 6: 863-UESD5.0DT5G; Packing: Tape and Reel; RoHS: Pb-Free; Mounting Technology: Surface Mount; ComponentLink1Description: Manufacturer URL; ComponentLink1URL: http://www.onsemi.com/; ComponentLink2Description: Datasheet; ComponentLink2URL: http://www.onsemi.cn/pub_link/Collateral/UESD3.3DT5G-D.PDF; ComponentLink3Description: Package Specification; ComponentLink3URL: http://www.onsemi.com/pub_link/Collateral/631AA.PDF
footprint ONSC-SOT-723-3-631AA-01_V (SOT223, 3-Leads, Body 1.2x0.8mm, Pitch 0.4mm)
pins: 1 K1, 2 K2, 3 A

## UESD6.0DT5G
designator D?
ESD Protection Diode, 3-Pin SOT-723, Pb-Free, Tape and Reel; Manufacturer: On Semiconductor; PartNumber: UESD6.0DT5G; Direction: Unidirectional; IR Max (uA): 0.1; Number of Lines: 2; V(BR) Min (V): 7; VRWM Max (V): 6; DatasheetVersion: Rev. 4; PackageVersion: Rev. D, 08/2009; PackageReference: SOT-723-3-631AA-01; PackageDescription: 3-Pin Small Outline Transistor, Body 1.2 x 0.8 mm, Pitch 0.4 mm; Supplier 1: Digi-Key; Supplier Part Number 1: UESD6.0DT5GOSTR-ND; Supplier 2: Digi-Key; Supplier Part Number 2: UESD6.0DT5GOSCT-ND; Supplier 3: Mouser; Supplier Part Number 3: 863-UESD6.0DT5G; Packing: Tape and Reel; RoHS: Pb-Free; Mounting Technology: Surface Mount; ComponentLink1Description: Manufacturer URL; ComponentLink1URL: http://www.onsemi.com/; ComponentLink2Description: Datasheet; ComponentLink2URL: http://www.onsemi.cn/pub_link/Collateral/UESD3.3DT5G-D.PDF; ComponentLink3Description: Package Specification; ComponentLink3URL: http://www.onsemi.com/pub_link/Collateral/631AA.PDF
footprint ONSC-SOT-723-3-631AA-01_V (SOT223, 3-Leads, Body 1.2x0.8mm, Pitch 0.4mm)
pins: 1 K1, 2 K2, 3 A